# EAGLE library part SP336ECT-L (library Exar_By_element14_Batch_1)
TRANSCEIVER
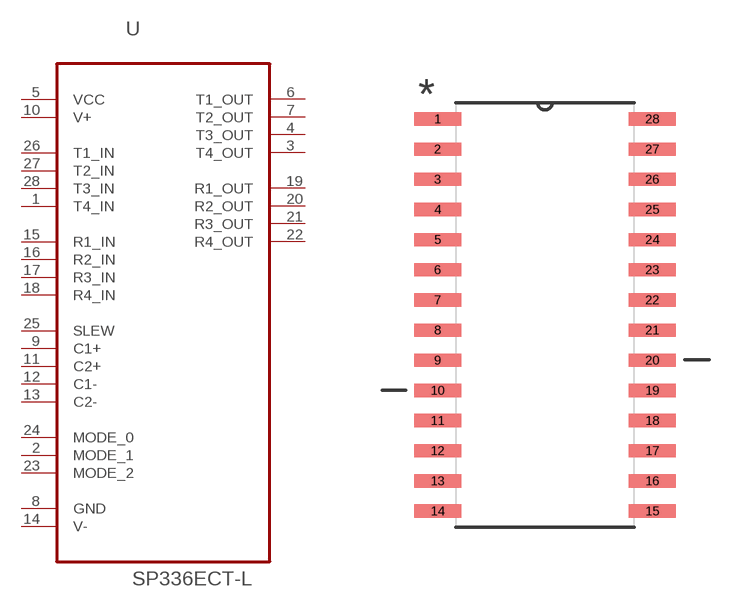
[diagram p36: symbol with the pads of SOIC127P1030X265-28N; footprint SOIC127P1030X265-28N]

Designator prefix U

## SP336ECT-L (MPN: SP336ECT-L; OC_FARNELL: 1821949; OC_NEWARK: 65R6122; PACKAGE: SOIC-28; SUPPLIER: Exar)  [SOIC127P1030X265-28N]
1  T4_IN  in
2  MODE_1  in
3  T4_OUT  out
4  T3_OUT  out
5  VCC  pwr
6  T1_OUT  out
7  T2_OUT  out
8  GND  pas
9  C1+  pas
10  V+  pwr
11  C2+  pas
12  C1-  pas
13  C2-  pas
14  V-  pwr
15  R1_IN  in
16  R2_IN  in
17  R3_IN  in
18  R4_IN  in
19  R1_OUT  out
20  R2_OUT  out
21  R3_OUT  out
22  R4_OUT  out
23  MODE_2  in
24  MODE_0  in
25  SLEW  in
26  T1_IN  in
27  T2_IN  in
28  T3_IN  in

## Footprint SOIC127P1030X265-28N (pad centres in mm)
smd 1.981 x 0.559: 1 -4.521,8.255; 2 -4.521,6.985; 3 -4.521,5.715; 4 -4.521,4.445; 5 -4.521,3.175; 6 -4.521,1.905; 7 -4.521,0.635; 8 -4.521,-0.635; 9 -4.521,-1.905; 10 -4.521,-3.175; 11 -4.521,-4.445; 12 -4.521,-5.715; 13 -4.521,-6.985; 14 -4.521,-8.255; 15 4.521,-8.255; 16 4.521,-6.985; 17 4.521,-5.715; 18 4.521,-4.445; 19 4.521,-3.175; 20 4.521,-1.905; 21 4.521,-0.635; 22 4.521,0.635; 23 4.521,1.905; 24 4.521,3.175; 25 4.521,4.445; 26 4.521,5.715; 27 4.521,6.985; 28 4.521,8.255